# EAGLE library part SD_PERPENDICULAR_MALE (library SD_PERPENDICULAR)
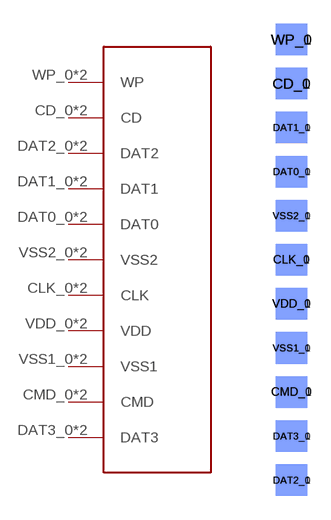
[diagram p0: symbol with the pads of SD_PERPENDICULAR_MALE; footprint SD_PERPENDICULAR_MALE]

Designator prefix -

## SD_PERPENDICULAR_MALE  [SD_PERPENDICULAR_MALE]
CD_0  CD
CD_1  CD
CLK_0  CLK
CLK_1  CLK
CMD_0  CMD
CMD_1  CMD
DAT0_0  DAT0
DAT0_1  DAT0
DAT1_0  DAT1
DAT1_1  DAT1
DAT2_0  DAT2
DAT2_1  DAT2
DAT3_0  DAT3
DAT3_1  DAT3
VDD_0  VDD
VDD_1  VDD
VSS1_0  VSS1
VSS1_1  VSS1
VSS2_0  VSS2
VSS2_1  VSS2
WP_0  WP
WP_1  WP

## Footprint SD_PERPENDICULAR_MALE (pad centres in mm)
smd 2 x 2: CD_0 0,11.2; CLK_0 0,0; CMD_0 0,-8.4; DAT0_0 0,5.6; DAT1_0 0,8.4; DAT2_0 0,-14; DAT3_0 0,-11.2; VDD_0 0,-2.8; VSS1_0 0,-5.6; VSS2_0 0,2.8; WP_0 0,14
smd 2 x 2 bottom: CD_1 0,11.2; CLK_1 0,0; CMD_1 0,-8.4; DAT0_1 0,5.6; DAT1_1 0,8.4; DAT2_1 0,-14; DAT3_1 0,-11.2; VDD_1 0,-2.8; VSS1_1 0,-5.6; VSS2_1 0,2.8; WP_1 0,14